# EAGLE library part CH32V407VET6_LCSC (library lcsc_parts)
Description: LQFP-100(14x14) Microcontrollers Manufacturer: WCH MPN: CH32V407VET6 LCSC Part: C54937001 Category: Microcontrollers Datasheet: https://datasheet.lcsc.com/datasheet/pdf/4bec96c9ef12ac4c2d1fe78e3be8baf3.pdf?productCode=C54937001
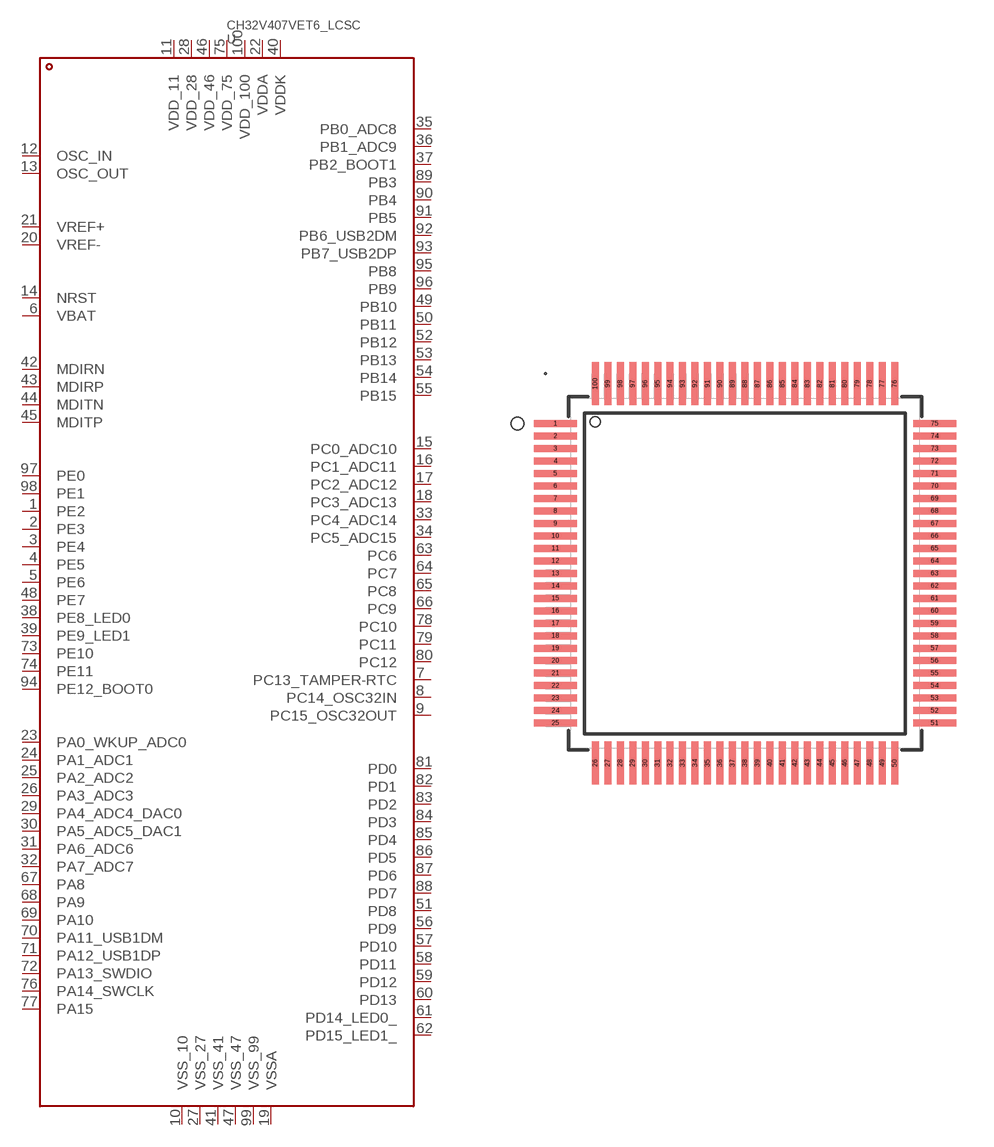
[diagram p25: symbol with the pads of LQFP-100_L14.0-W14.0-P0.50-LS16.0-TL_1; footprint LQFP-100_L14.0-W14.0-P0.50-LS16.0-TL_1]

Designator prefix U

## CH32V407VET6_LCSC (CATEGORY: Microcontrollers; DATASHEET: https://datasheet.lcsc.com/datasheet/pdf/4bec96c9ef12ac4c2d1fe78e3be8baf3.pdf?productCode=C54937001; DESCRIPTION: LQFP-100(14x14) Microcontrollers; LCSC_PART: C54937001; LCSC_STOCK: 149; MANUFACTURER: WCH; MPN: CH32V407VET6; PARTNO: CH32V407VET6; PRICING_1000: $1.429/unit @ 1000; PRICING_50: $1.429/unit @ 50)  [LQFP-100_L14.0-W14.0-P0.50-LS16.0-TL_1]
1  PE2
2  PE3
3  PE4
4  PE5
5  PE6
6  VBAT
7  PC13_TAMPER-RTC
8  PC14_OSC32IN
9  PC15_OSC32OUT
10  VSS_10
11  VDD_11
12  OSC_IN
13  OSC_OUT
14  NRST
15  PC0_ADC10
16  PC1_ADC11
17  PC2_ADC12
18  PC3_ADC13
19  VSSA
20  VREF-
21  VREF+
22  VDDA
23  PA0_WKUP_ADC0
24  PA1_ADC1
25  PA2_ADC2
26  PA3_ADC3
27  VSS_27
28  VDD_28
29  PA4_ADC4_DAC0
30  PA5_ADC5_DAC1
31  PA6_ADC6
32  PA7_ADC7
33  PC4_ADC14
34  PC5_ADC15
35  PB0_ADC8
36  PB1_ADC9
37  PB2_BOOT1
38  PE8_LED0
39  PE9_LED1
40  VDDK
41  VSS_41
42  MDIRN
43  MDIRP
44  MDITN
45  MDITP
46  VDD_46
47  VSS_47
48  PE7
49  PB10
50  PB11
51  PD8
52  PB12
53  PB13
54  PB14
55  PB15
56  PD9
57  PD10
58  PD11
59  PD12
60  PD13
61  PD14_LED0_
62  PD15_LED1_
63  PC6
64  PC7
65  PC8
66  PC9
67  PA8
68  PA9
69  PA10
70  PA11_USB1DM
71  PA12_USB1DP
72  PA13_SWDIO
73  PE10
74  PE11
75  VDD_75
76  PA14_SWCLK
77  PA15
78  PC10
79  PC11
80  PC12
81  PD0
82  PD1
83  PD2
84  PD3
85  PD4
86  PD5
87  PD6
88  PD7
89  PB3
90  PB4
91  PB5
92  PB6_USB2DM
93  PB7_USB2DP
94  PE12_BOOT0
95  PB8
96  PB9
97  PE0
98  PE1
99  VSS_99
100  VDD_100

## Footprint LQFP-100_L14.0-W14.0-P0.50-LS16.0-TL_1 (pad centres in mm)
smd 1.715 x 0.28: 1 -7.6,6; 2 -7.6,5.5; 3 -7.6,5; 4 -7.6,4.5; 5 -7.6,4; 6 -7.6,3.5; 7 -7.6,3; 8 -7.6,2.5; 9 -7.6,2; 10 -7.6,1.5; 11 -7.6,1; 12 -7.6,0.5; 13 -7.6,0; 14 -7.6,-0.5; 15 -7.6,-1; 16 -7.6,-1.5; 17 -7.6,-2; 18 -7.6,-2.5; 19 -7.6,-3; 20 -7.6,-3.5; 21 -7.6,-4; 22 -7.6,-4.5; 23 -7.6,-5; 24 -7.6,-5.5; 25 -7.6,-6; 51 7.6,-6; 52 7.6,-5.5; 53 7.6,-5; 54 7.6,-4.5; 55 7.6,-4; 56 7.6,-3.5; 57 7.6,-3; 58 7.6,-2.5; 59 7.6,-2; 60 7.6,-1.5; 61 7.6,-1; 62 7.6,-0.5; 63 7.6,0; 64 7.6,0.5; 65 7.6,1; 66 7.6,1.5; 67 7.6,2; 68 7.6,2.5; 69 7.6,3; 70 7.6,3.5; 71 7.6,4; 72 7.6,4.5; 73 7.6,5; 74 7.6,5.5; 75 7.6,6
smd 0.28 x 1.715: 26 -6,-7.6; 27 -5.5,-7.6; 28 -5,-7.6; 29 -4.5,-7.6; 30 -4,-7.6; 31 -3.5,-7.6; 32 -3,-7.6; 33 -2.5,-7.6; 34 -2,-7.6; 35 -1.5,-7.6; 36 -1,-7.6; 37 -0.5,-7.6; 38 0,-7.6; 39 0.5,-7.6; 40 1,-7.6; 41 1.5,-7.6; 42 2,-7.6; 43 2.5,-7.6; 44 3,-7.6; 45 3.5,-7.6; 46 4,-7.6; 47 4.5,-7.6; 48 5,-7.6; 49 5.5,-7.6; 50 6,-7.6; 76 6,7.6; 77 5.5,7.6; 78 5,7.6; 79 4.5,7.6; 80 4,7.6; 81 3.5,7.6; 82 3,7.6; 83 2.5,7.6; 84 2,7.6; 85 1.5,7.6; 86 1,7.6; 87 0.5,7.6; 88 0,7.6; 89 -0.5,7.6; 90 -1,7.6; 91 -1.5,7.6; 92 -2,7.6; 93 -2.5,7.6; 94 -3,7.6; 95 -3.5,7.6; 96 -4,7.6; 97 -4.5,7.6; 98 -5,7.6; 99 -5.5,7.6; 100 -6,7.6